# EAGLE library part 87759-42 (library con-molex-milli-grid)
HEADER
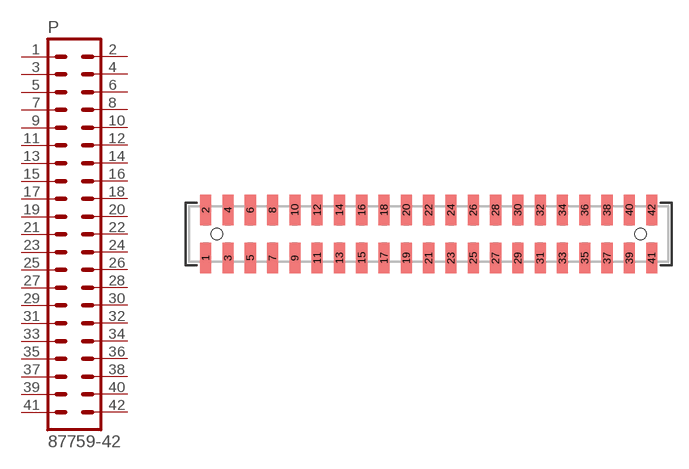
[diagram p132: symbol with the pads of 87759-42; footprint 87759-42]

Designator prefix P

## 87759-42  [87759-42]
1  1  pas
2  2  pas
3  3  pas
4  4  pas
5  5  pas
6  6  pas
7  7  pas
8  8  pas
9  9  pas
10  10  pas
11  11  pas
12  12  pas
13  13  pas
14  14  pas
15  15  pas
16  16  pas
17  17  pas
18  18  pas
19  19  pas
20  20  pas
21  21  pas
22  22  pas
23  23  pas
24  24  pas
25  25  pas
26  26  pas
27  27  pas
28  28  pas
29  29  pas
30  30  pas
31  31  pas
32  32  pas
33  33  pas
34  34  pas
35  35  pas
36  36  pas
37  37  pas
38  38  pas
39  39  pas
40  40  pas
41  41  pas
42  42  pas

## Footprint 87759-42 (pad centres in mm)
HEADER SMD Dual Row, Vertical
smd 1 x 2.75: 1 -20,-2.15; 2 -20,2.15; 3 -18,-2.15; 4 -18,2.15; 5 -16,-2.15; 6 -16,2.15; 7 -14,-2.15; 8 -14,2.15; 9 -12,-2.15; 10 -12,2.15; 11 -10,-2.15; 12 -10,2.15; 13 -8,-2.15; 14 -8,2.15; 15 -6,-2.15; 16 -6,2.15; 17 -4,-2.15; 18 -4,2.15; 19 -2,-2.15; 20 -2,2.15; 21 0,-2.15; 22 0,2.15; 23 2,-2.15; 24 2,2.15; 25 4,-2.15; 26 4,2.15; 27 6,-2.15; 28 6,2.15; 29 8,-2.15; 30 8,2.15; 31 10,-2.15; 32 10,2.15; 33 12,-2.15; 34 12,2.15; 35 14,-2.15; 36 14,2.15; 37 16,-2.15; 38 16,2.15; 39 18,-2.15; 40 18,2.15; 41 20,-2.15; 42 20,2.15
hole 1 at -19,0
hole 1 at 19,0